# Altium footprint library RJ-Telephone connectors.PcbLib: 7 footprints
Each footprint in its own frame and in the unit in brackets; x right, y up, seen from the top. Pads: shape width x height; smd on the part's side, far side on the other; paste and mask are expansions set on the pad; w line width, h text height; cw(c..) or ccw(c..) is an arc to the next point about the centre after c.
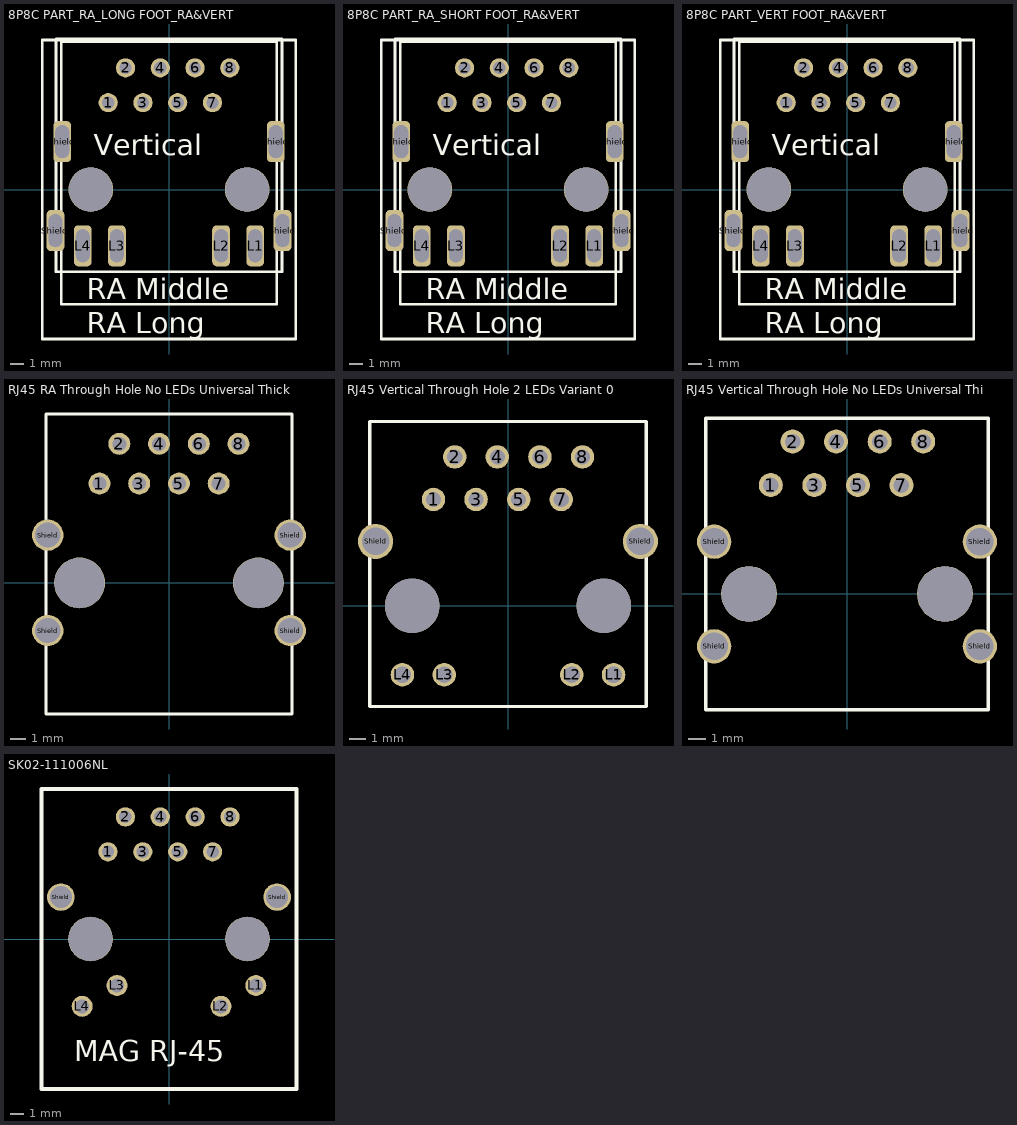
[diagram p0: the footprints below, top view; thin cyan lines are the x and y axes]

## 8P8C PART_RA_LONG FOOT_RA&VERT [mm] "Right angle long part, footprint for vertical and right angled."
height 16.5
pads (18):
  round 1.4 hole 0.9: 1(-4.445,6.35) 2(-3.175,8.89) 3(-1.905,6.35) 4(-0.635,8.89) 5(0.635,6.35) 6(1.905,8.89) 7(3.175,6.35) 8(4.445,8.89)
  rrect50% 1.3x3 hole 1 slot 2.4 at 90 deg: L1(6.3,-4.11) L2(3.81,-4.11) L3(-3.81,-4.11) L4(-6.3,-4.11) Shield(-8.3,-3) Shield(-7.8,3.5) Shield(7.8,3.5) Shield(8.3,-3)
  round 3.25 hole 3.2: ""(-5.715,0) ""(5.715,0)
Top Overlay:
  lines w0.2: -9.271,-10.922 -9.271,10.922 9.271,10.922 9.271,-10.922 -9.271,-10.922 ; -8.25,-6 -8.25,11 8.25,11 8.25,-6 -8.25,-6 ; -7.874,-8.382 7.874,-8.382 7.874,10.795 -7.874,10.795 -7.874,-8.382
  text "Vertical" at -5.5,2.5 h1.52
  text "RA Middle" at -6,-8 h1.52
  text "RA Long" at -6,-10.5 h1.52
3D body "J1B1211CCD.STEP": height 14.36, standoff -3.95, extent -9.009,-10.65 9.009,10.65

## 8P8C PART_RA_SHORT FOOT_RA&VERT [mm] "Right angle short part, footprint for vertical and right angled."
height 16.5
pads (18):
  round 1.4 hole 0.9: 1(-4.445,6.35) 2(-3.175,8.89) 3(-1.905,6.35) 4(-0.635,8.89) 5(0.635,6.35) 6(1.905,8.89) 7(3.175,6.35) 8(4.445,8.89)
  rrect50% 1.3x3 hole 1 slot 2.4 at 90 deg: L1(6.3,-4.11) L2(3.81,-4.11) L3(-3.81,-4.11) L4(-6.3,-4.11) Shield(-8.3,-3) Shield(-7.8,3.5) Shield(7.8,3.5) Shield(8.3,-3)
  round 3.25 hole 3.2: ""(-5.715,0) ""(5.715,0)
Top Overlay:
  lines w0.2: -9.271,-10.922 -9.271,10.922 9.271,10.922 9.271,-10.922 -9.271,-10.922 ; -8.25,-6 -8.25,11 8.25,11 8.25,-6 -8.25,-6 ; -7.874,-8.382 7.874,-8.382 7.874,10.795 -7.874,10.795 -7.874,-8.382
  text "Vertical" at -5.5,2.5 h1.52
  text "RA Middle" at -6,-8 h1.52
  text "RA Long" at -6,-10.5 h1.52
3D body "FRJAE-468.STEP": height 13.98, standoff -3.68, extent -7.7,-8.128 7.7,10.542

## 8P8C PART_VERT FOOT_RA&VERT [mm] "Vertical part, footprint for vertical and right angled."
height 16.5
pads (18):
  round 1.4 hole 0.9: 1(-4.445,6.35) 2(-3.175,8.89) 3(-1.905,6.35) 4(-0.635,8.89) 5(0.635,6.35) 6(1.905,8.89) 7(3.175,6.35) 8(4.445,8.89)
  rrect50% 1.3x3 hole 1 slot 2.4 at 90 deg: L1(6.3,-4.11) L2(3.81,-4.11) L3(-3.81,-4.11) L4(-6.3,-4.11) Shield(-8.3,-3) Shield(-7.8,3.5) Shield(7.8,3.5) Shield(8.3,-3)
  round 3.25 hole 3.2: ""(-5.715,0) ""(5.715,0)
Top Overlay:
  lines w0.2: -9.271,-10.922 -9.271,10.922 9.271,10.922 9.271,-10.922 -9.271,-10.922 ; -8.25,-6 -8.25,11 8.25,11 8.25,-6 -8.25,-6 ; -7.874,-8.382 7.874,-8.382 7.874,10.795 -7.874,10.795 -7.874,-8.382
  text "Vertical" at -5.5,2.5 h1.52
  text "RA Middle" at -6,-8 h1.52
  text "RA Long" at -6,-10.5 h1.52
3D body "JD2-0001NL.STEP": height 16.75, standoff -4.1, extent -8.2,-5.85 8.25,11.1

## RJ45 RA Through Hole No LEDs Universal Thick [mm] "RJ45 Right Angle Through Hole No LEDs ( Universal, thick )"
height 16.5
pads (14):
  round 1.4 hole 0.9: 1(-4.445,6.35) 2(-3.175,8.89) 3(-1.905,6.35) 4(-0.635,8.89) 5(0.635,6.35) 6(1.905,8.89) 7(3.175,6.35) 8(4.445,8.89)
  round 2 hole 1.6: Shield(-7.75,-3.05) Shield(-7.75,3.05) Shield(7.75,-3.05) Shield(7.75,3.05)
  round 3.25 hole 3.2: ""(-5.715,0) ""(5.715,0)
Top Overlay:
  lines w0.2: -7.874,-8.382 7.874,-8.382 7.874,10.795 -7.874,10.795 -7.874,-8.382
3D body "FRJAE-468.STEP": height 13.98, standoff -3.68, extent -7.7,-8.128 7.7,10.542

## RJ45 Vertical Through Hole 2 LEDs Variant 0 [mm] "RJ45 Vertical Through Hole 2 LEDs ( Standard, thick )"
height 16.5
pads (16):
  round 1.4 hole 0.9: 1(-4.445,6.35) 2(-3.175,8.89) 3(-1.905,6.35) 4(-0.635,8.89) 5(0.635,6.35) 6(1.905,8.89) 7(3.175,6.35) 8(4.445,8.89)
  round 1.4 hole 1: L1(6.3,-4.11) L2(3.81,-4.11) L3(-3.81,-4.11) L4(-6.3,-4.11)
  round 2.1 hole 1.65: Shield(-7.9,3.85) Shield(7.9,3.85)
  round 3.25 hole 3.25: ""(-5.715,0) ""(5.715,0)
Top Overlay:
  lines w0.2: -8.25,-6 8.25,-6 8.25,11 -8.25,11 -8.25,-6
3D body "JD2-0001NL.STEP": height 16.75, standoff -4.1, extent -8.2,-5.85 8.25,11.1

## RJ45 Vertical Through Hole No LEDs Universal Thick [mm] "RJ45 Vertical Through Hole No LEDs ( Universal, thick )"
height 16.5
pads (14):
  round 1.4 hole 0.9: 1(-4.445,6.35) 2(-3.175,8.89) 3(-1.905,6.35) 4(-0.635,8.89) 5(0.635,6.35) 6(1.905,8.89) 7(3.175,6.35) 8(4.445,8.89)
  round 2 hole 1.6: Shield(-7.75,-3.05) Shield(-7.75,3.05) Shield(7.75,-3.05) Shield(7.75,3.05)
  round 3.25 hole 3.2: ""(-5.715,0) ""(5.715,0)
Top Overlay:
  lines w0.2: -8.25,-6.75 -8.25,10.25 8.25,10.25 8.25,-6.75 -8.25,-6.75
3D body "JD2-0001NL_SHIELD.STEP": height 16.75, standoff -4.1, extent -8.225,-6.663 8.225,10.287
3D body "AJT26A8813.STEP": height 16.3, standoff -3.3, extent -7.747,-6.148 7.753,9.652

## SK02-111006NL [mm] "Footprint for MAG RJ-45 with 2 LEDS, TAB DOWN"
height 15
pads (16):
  round 1.4 hole 0.9: 1(-4.445,6.35) 2(-3.175,8.89) 3(-1.905,6.35) 4(-0.635,8.89) 5(0.635,6.35) 6(1.905,8.89) 7(3.175,6.35) 8(4.445,8.89)
  round 1.524 hole 1.02: L1(6.325,-3.382) L2(3.785,-4.902) L3(-3.785,-3.38) L4(-6.325,-4.9)
  round 2 hole 1.6: Shield(-7.875,3.05) Shield(7.875,3.05)
  round 3.25 hole 3.2: ""(-5.715,0) ""(5.715,0)
Top Overlay:
  lines w0.3: -9.271,-10.922 -9.271,10.922 9.271,10.922 9.271,-10.922 -9.271,-10.922
  text "MAG RJ-45" at -6.9,-8.9 h1.52
3D body "J1B1211CCD.STEP": height 14.36, standoff -3.95, extent -9.009,-10.65 9.009,10.65